# Altium footprint library Connector_Wago.PcbLib: 34 footprints (part 1 of 3)
Each footprint in its own frame and in the unit in brackets; x right, y up, seen from the top. Pads: shape width x height; smd on the part's side, far side on the other; paste and mask are expansions set on the pad; w line width, h text height; cw(c..) or ccw(c..) is an arc to the next point about the centre after c.
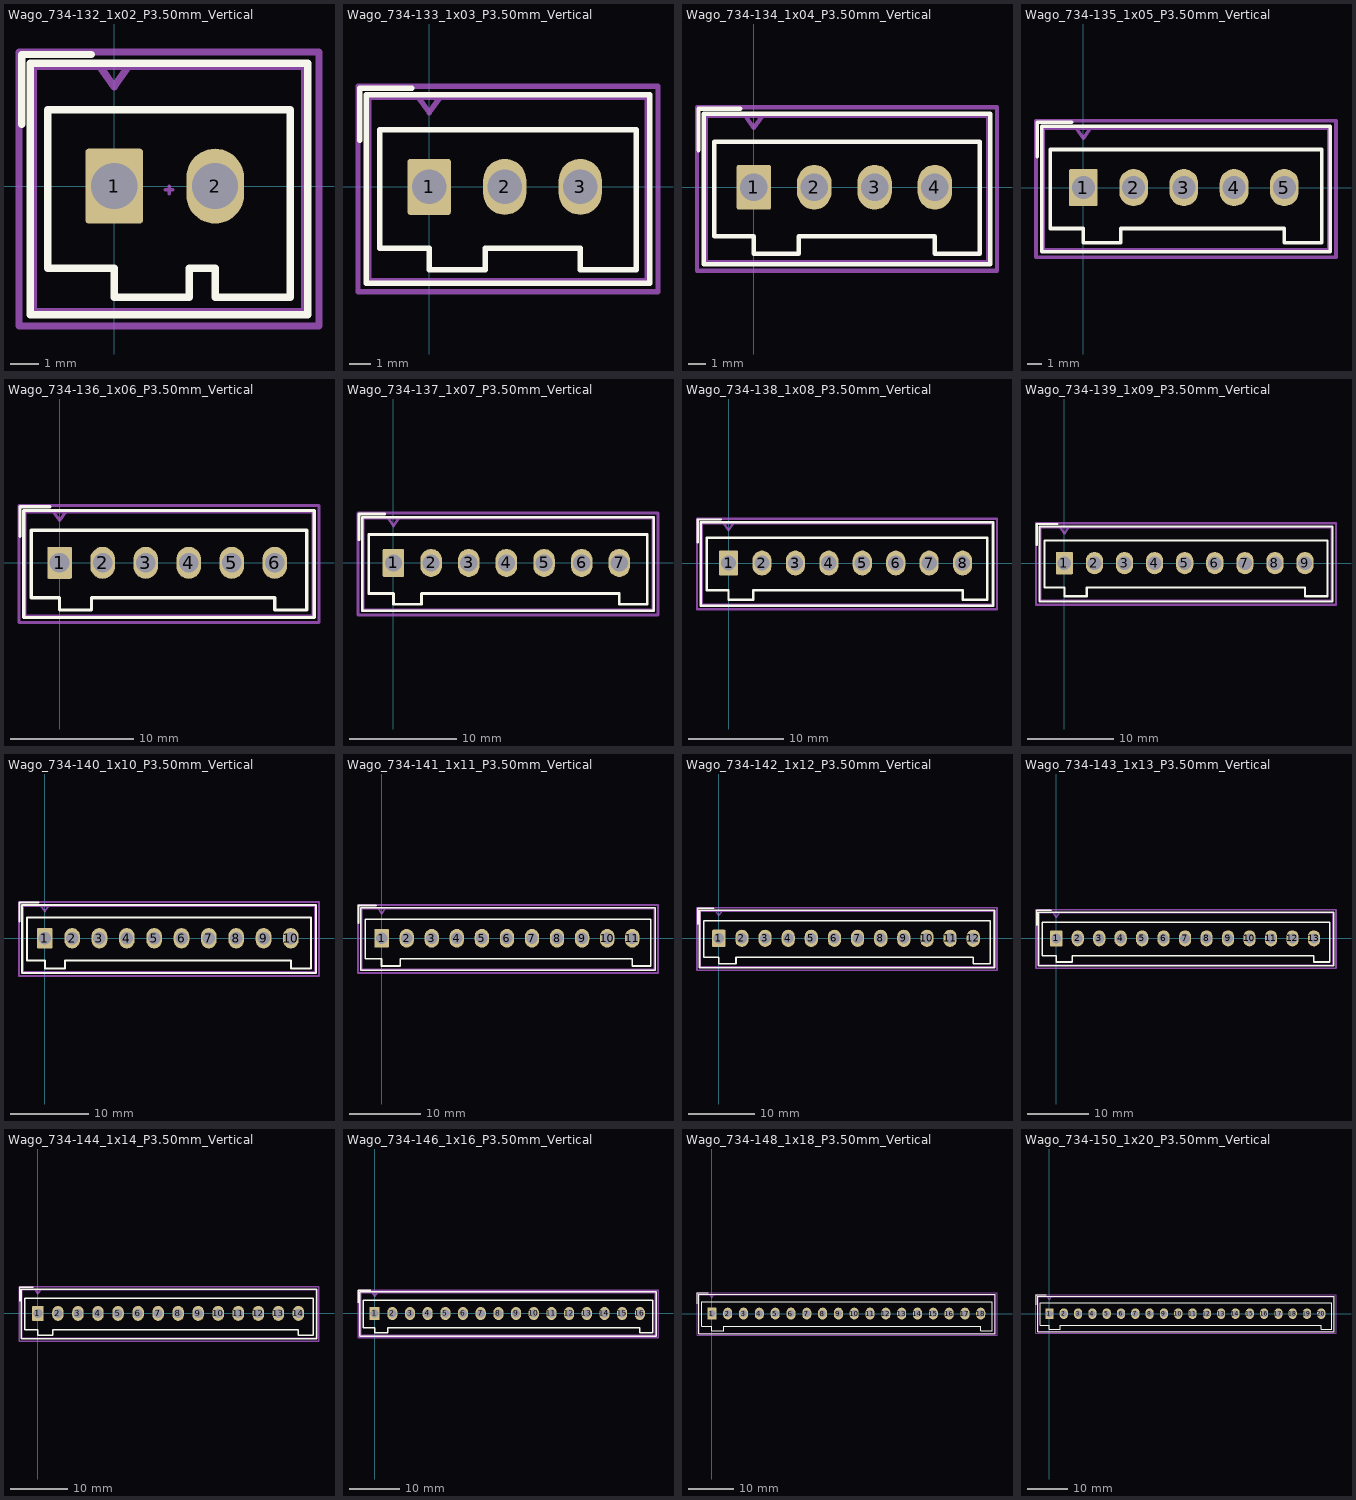
[diagram p0: the footprints below, top view; thin cyan lines are the x and y axes]

## Wago_734-132_1x02_P3.50mm_Vertical [mm]
pads (2):
  rrect12% 2x2.6 hole 1.6: 1(0,0)
  rrect100% 2x2.6 hole 1.6: 2(3.5,0)
F.SilkS:
  lines w0.254: -3.21,2.15 -3.21,4.56 -0.8,4.56 ; -2.91,-4.46 6.71,-4.46 6.71,4.26 -2.91,4.26 -2.91,-4.46 ; -2.3,-2.85 0,-2.85 0,-3.85 2.6,-3.85 2.6,-2.85 3.5,-2.85 3.5,-3.85 6.1,-3.85 6.1,2.65 -2.3,2.65 -2.3,-2.85
Top Component Center:
  lines w0.127: 1.778,-0.127 2.032,-0.127 ; 1.905,-0.254 1.905,0
Top Assembly:
  lines w0.254: -0.5,4.15 0,3.443 0.5,4.15 ; -2.8,-4.35 6.6,-4.35 6.6,4.15 -2.8,4.15 -2.8,-4.35
  text "'.Designator'" at -2.147,-4.49 h1
Top Courtyard:
  lines w0.254: -3.3,-4.85 7.1,-4.85 7.1,4.65 -3.3,4.65 -3.3,-4.85
Top Designator:
  text ".Designator" at -5.718,-0.608 h1.52

## Wago_734-133_1x03_P3.50mm_Vertical [mm]
pads (3):
  rrect12% 2x2.6 hole 1.6: 1(0,0)
  rrect100% 2x2.6 hole 1.6: 2(3.5,0) 3(7,0)
F.SilkS:
  lines w0.254: -3.21,2.15 -3.21,4.56 -0.8,4.56 ; -2.91,-4.46 10.21,-4.46 10.21,4.26 -2.91,4.26 -2.91,-4.46 ; -2.3,-2.85 0,-2.85 0,-3.85 2.6,-3.85 2.6,-2.85 7,-2.85 7,-3.85 9.6,-3.85 9.6,2.65 -2.3,2.65 -2.3,-2.85
Top Assembly:
  lines w0.254: -0.5,4.15 0,3.443 0.5,4.15 ; -2.8,-4.35 10.1,-4.35 10.1,4.15 -2.8,4.15 -2.8,-4.35
  text "'.Designator'" at -0.397,-4.49 h1
Top Courtyard:
  lines w0.254: -3.3,-4.85 10.6,-4.85 10.6,4.65 -3.3,4.65 -3.3,-4.85
Top Designator:
  text ".Designator" at -3.968,-0.608 h1.52

## Wago_734-134_1x04_P3.50mm_Vertical [mm]
pads (4):
  rrect12% 2x2.6 hole 1.6: 1(0,0)
  rrect100% 2x2.6 hole 1.6: 2(3.5,0) 3(7,0) 4(10.5,0)
F.SilkS:
  lines w0.254: -3.21,2.15 -3.21,4.56 -0.8,4.56 ; -2.91,-4.46 13.71,-4.46 13.71,4.26 -2.91,4.26 -2.91,-4.46 ; -2.3,-2.85 0,-2.85 0,-3.85 2.6,-3.85 2.6,-2.85 10.5,-2.85 10.5,-3.85 13.1,-3.85 13.1,2.65 -2.3,2.65 -2.3,-2.85
Top Assembly:
  lines w0.254: -0.5,4.15 0,3.443 0.5,4.15 ; -2.8,-4.35 13.6,-4.35 13.6,4.15 -2.8,4.15 -2.8,-4.35
  text "'.Designator'" at 1.353,-4.49 h1
Top Courtyard:
  lines w0.254: -3.3,-4.85 14.1,-4.85 14.1,4.65 -3.3,4.65 -3.3,-4.85
Top Designator:
  text ".Designator" at -2.218,-0.608 h1.52

## Wago_734-135_1x05_P3.50mm_Vertical [mm]
pads (5):
  rrect12% 2x2.6 hole 1.6: 1(0,0)
  rrect100% 2x2.6 hole 1.6: 2(3.5,0) 3(7,0) 4(10.5,0) 5(14,0)
F.SilkS:
  lines w0.254: -3.21,2.15 -3.21,4.56 -0.8,4.56 ; -2.91,-4.46 17.21,-4.46 17.21,4.26 -2.91,4.26 -2.91,-4.46 ; -2.3,-2.85 0,-2.85 0,-3.85 2.6,-3.85 2.6,-2.85 14,-2.85 14,-3.85 16.6,-3.85 16.6,2.65 -2.3,2.65 -2.3,-2.85
Top Assembly:
  lines w0.254: -0.5,4.15 0,3.443 0.5,4.15 ; -2.8,-4.35 17.1,-4.35 17.1,4.15 -2.8,4.15 -2.8,-4.35
  text "'.Designator'" at 3.103,-4.49 h1
Top Courtyard:
  lines w0.254: -3.3,-4.85 17.6,-4.85 17.6,4.65 -3.3,4.65 -3.3,-4.85
Top Designator:
  text ".Designator" at -0.468,-0.608 h1.52

## Wago_734-136_1x06_P3.50mm_Vertical [mm]
pads (6):
  rrect12% 2x2.6 hole 1.6: 1(0,0)
  rrect100% 2x2.6 hole 1.6: 2(3.5,0) 3(7,0) 4(10.5,0) 5(14,0) 6(17.5,0)
F.SilkS:
  lines w0.254: -3.21,2.15 -3.21,4.56 -0.8,4.56 ; -2.91,-4.46 20.71,-4.46 20.71,4.26 -2.91,4.26 -2.91,-4.46 ; -2.3,-2.85 0,-2.85 0,-3.85 2.6,-3.85 2.6,-2.85 17.5,-2.85 17.5,-3.85 20.1,-3.85 20.1,2.65 -2.3,2.65 -2.3,-2.85
Top Assembly:
  lines w0.254: -0.5,4.15 0,3.443 0.5,4.15 ; -2.8,-4.35 20.6,-4.35 20.6,4.15 -2.8,4.15 -2.8,-4.35
  text "'.Designator'" at 4.853,-4.49 h1
Top Courtyard:
  lines w0.254: -3.3,-4.85 21.1,-4.85 21.1,4.65 -3.3,4.65 -3.3,-4.85
Top Designator:
  text ".Designator" at 1.282,-0.608 h1.52

## Wago_734-137_1x07_P3.50mm_Vertical [mm]
pads (7):
  rrect12% 2x2.6 hole 1.6: 1(0,0)
  rrect100% 2x2.6 hole 1.6: 2(3.5,0) 3(7,0) 4(10.5,0) 5(14,0) 6(17.5,0) 7(21,0)
F.SilkS:
  lines w0.254: -3.21,2.15 -3.21,4.56 -0.8,4.56 ; -2.91,-4.46 24.21,-4.46 24.21,4.26 -2.91,4.26 -2.91,-4.46 ; -2.3,-2.85 0,-2.85 0,-3.85 2.6,-3.85 2.6,-2.85 21,-2.85 21,-3.85 23.6,-3.85 23.6,2.65 -2.3,2.65 -2.3,-2.85
Top Assembly:
  lines w0.254: -0.5,4.15 0,3.443 0.5,4.15 ; -2.8,-4.35 24.1,-4.35 24.1,4.15 -2.8,4.15 -2.8,-4.35
  text "'.Designator'" at 6.603,-4.49 h1
Top Courtyard:
  lines w0.254: -3.3,-4.85 24.6,-4.85 24.6,4.65 -3.3,4.65 -3.3,-4.85
Top Designator:
  text ".Designator" at 3.032,-0.608 h1.52

## Wago_734-138_1x08_P3.50mm_Vertical [mm]
pads (8):
  rrect12% 2x2.6 hole 1.6: 1(0,0)
  rrect100% 2x2.6 hole 1.6: 2(3.5,0) 3(7,0) 4(10.5,0) 5(14,0) 6(17.5,0) 7(21,0) 8(24.5,0)
F.SilkS:
  lines w0.254: -3.21,2.15 -3.21,4.56 -0.8,4.56 ; -2.91,-4.46 27.71,-4.46 27.71,4.26 -2.91,4.26 -2.91,-4.46 ; -2.3,-2.85 0,-2.85 0,-3.85 2.6,-3.85 2.6,-2.85 24.5,-2.85 24.5,-3.85 27.1,-3.85 27.1,2.65 -2.3,2.65 -2.3,-2.85
Top Assembly:
  lines w0.254: -0.5,4.15 0,3.443 0.5,4.15 ; -2.8,-4.35 27.6,-4.35 27.6,4.15 -2.8,4.15 -2.8,-4.35
  text "'.Designator'" at 8.353,-4.49 h1
Top Courtyard:
  lines w0.254: -3.3,-4.85 28.1,-4.85 28.1,4.65 -3.3,4.65 -3.3,-4.85
Top Designator:
  text ".Designator" at 4.782,-0.608 h1.52

## Wago_734-139_1x09_P3.50mm_Vertical [mm]
pads (9):
  rrect12% 2x2.6 hole 1.6: 1(0,0)
  rrect100% 2x2.6 hole 1.6: 2(3.5,0) 3(7,0) 4(10.5,0) 5(14,0) 6(17.5,0) 7(21,0) 8(24.5,0) 9(28,0)
F.SilkS:
  lines w0.254: -3.21,2.15 -3.21,4.56 -0.8,4.56 ; -2.91,-4.46 31.21,-4.46 31.21,4.26 -2.91,4.26 -2.91,-4.46 ; -2.3,-2.85 0,-2.85 0,-3.85 2.6,-3.85 2.6,-2.85 28,-2.85 28,-3.85 30.6,-3.85 30.6,2.65 -2.3,2.65 -2.3,-2.85
Top Assembly:
  lines w0.254: -0.5,4.15 0,3.443 0.5,4.15 ; -2.8,-4.35 31.1,-4.35 31.1,4.15 -2.8,4.15 -2.8,-4.35
  text "'.Designator'" at 10.103,-4.49 h1
Top Courtyard:
  lines w0.254: -3.3,-4.85 31.6,-4.85 31.6,4.65 -3.3,4.65 -3.3,-4.85
Top Designator:
  text ".Designator" at 6.532,-0.608 h1.52

## Wago_734-140_1x10_P3.50mm_Vertical [mm]
pads (10):
  rrect12% 2x2.6 hole 1.6: 1(0,0)
  rrect100% 2x2.6 hole 1.6: 2(3.5,0) 3(7,0) 4(10.5,0) 5(14,0) 6(17.5,0) 7(21,0) 8(24.5,0) 9(28,0) 10(31.5,0)
F.SilkS:
  lines w0.254: -3.21,2.15 -3.21,4.56 -0.8,4.56 ; -2.91,-4.46 34.71,-4.46 34.71,4.26 -2.91,4.26 -2.91,-4.46 ; -2.3,-2.85 0,-2.85 0,-3.85 2.6,-3.85 2.6,-2.85 31.5,-2.85 31.5,-3.85 34.1,-3.85 34.1,2.65 -2.3,2.65 -2.3,-2.85
Top Assembly:
  lines w0.254: -0.5,4.15 0,3.443 0.5,4.15 ; -2.8,-4.35 34.6,-4.35 34.6,4.15 -2.8,4.15 -2.8,-4.35
  text "'.Designator'" at 11.853,-4.49 h1
Top Courtyard:
  lines w0.254: -3.3,-4.85 35.1,-4.85 35.1,4.65 -3.3,4.65 -3.3,-4.85
Top Designator:
  text ".Designator" at 8.282,-0.608 h1.52

## Wago_734-141_1x11_P3.50mm_Vertical [mm]
pads (11):
  rrect12% 2x2.6 hole 1.6: 1(0,0)
  rrect100% 2x2.6 hole 1.6: 2(3.5,0) 3(7,0) 4(10.5,0) 5(14,0) 6(17.5,0) 7(21,0) 8(24.5,0) 9(28,0) 10(31.5,0) 11(35,0)
F.SilkS:
  lines w0.254: -3.21,2.15 -3.21,4.56 -0.8,4.56 ; -2.91,-4.46 38.21,-4.46 38.21,4.26 -2.91,4.26 -2.91,-4.46 ; -2.3,-2.85 0,-2.85 0,-3.85 2.6,-3.85 2.6,-2.85 35,-2.85 35,-3.85 37.6,-3.85 37.6,2.65 -2.3,2.65 -2.3,-2.85
Top Assembly:
  lines w0.254: -0.5,4.15 0,3.443 0.5,4.15 ; -2.8,-4.35 38.1,-4.35 38.1,4.15 -2.8,4.15 -2.8,-4.35
  text "'.Designator'" at 13.603,-4.49 h1
Top Courtyard:
  lines w0.254: -3.3,-4.85 38.6,-4.85 38.6,4.65 -3.3,4.65 -3.3,-4.85
Top Designator:
  text ".Designator" at 10.032,-0.608 h1.52

## Wago_734-142_1x12_P3.50mm_Vertical [mm]
pads (12):
  rrect12% 2x2.6 hole 1.6: 1(0,0)
  rrect100% 2x2.6 hole 1.6: 2(3.5,0) 3(7,0) 4(10.5,0) 5(14,0) 6(17.5,0) 7(21,0) 8(24.5,0) 9(28,0) 10(31.5,0) 11(35,0) 12(38.5,0)
F.SilkS:
  lines w0.254: -3.21,2.15 -3.21,4.56 -0.8,4.56 ; -2.91,-4.46 41.71,-4.46 41.71,4.26 -2.91,4.26 -2.91,-4.46 ; -2.3,-2.85 0,-2.85 0,-3.85 2.6,-3.85 2.6,-2.85 38.5,-2.85 38.5,-3.85 41.1,-3.85 41.1,2.65 -2.3,2.65 -2.3,-2.85
Top Assembly:
  lines w0.254: -0.5,4.15 0,3.443 0.5,4.15 ; -2.8,-4.35 41.6,-4.35 41.6,4.15 -2.8,4.15 -2.8,-4.35
  text "'.Designator'" at 15.353,-4.49 h1
Top Courtyard:
  lines w0.254: -3.3,-4.85 42.1,-4.85 42.1,4.65 -3.3,4.65 -3.3,-4.85
Top Designator:
  text ".Designator" at 11.782,-0.608 h1.52

## Wago_734-143_1x13_P3.50mm_Vertical [mm]
pads (13):
  rrect12% 2x2.6 hole 1.6: 1(0,0)
  rrect100% 2x2.6 hole 1.6: 2(3.5,0) 3(7,0) 4(10.5,0) 5(14,0) 6(17.5,0) 7(21,0) 8(24.5,0) 9(28,0) 10(31.5,0) 11(35,0) 12(38.5,0) 13(42,0)
F.SilkS:
  lines w0.254: -3.21,2.15 -3.21,4.56 -0.8,4.56 ; -2.91,-4.46 45.21,-4.46 45.21,4.26 -2.91,4.26 -2.91,-4.46 ; -2.3,-2.85 0,-2.85 0,-3.85 2.6,-3.85 2.6,-2.85 42,-2.85 42,-3.85 44.6,-3.85 44.6,2.65 -2.3,2.65 -2.3,-2.85
Top Assembly:
  lines w0.254: -0.5,4.15 0,3.443 0.5,4.15 ; -2.8,-4.35 45.1,-4.35 45.1,4.15 -2.8,4.15 -2.8,-4.35
  text "'.Designator'" at 17.103,-4.49 h1
Top Courtyard:
  lines w0.254: -3.3,-4.85 45.6,-4.85 45.6,4.65 -3.3,4.65 -3.3,-4.85
Top Designator:
  text ".Designator" at 13.532,-0.608 h1.52

## Wago_734-144_1x14_P3.50mm_Vertical [mm]
pads (14):
  rrect12% 2x2.6 hole 1.6: 1(0,0)
  rrect100% 2x2.6 hole 1.6: 2(3.5,0) 3(7,0) 4(10.5,0) 5(14,0) 6(17.5,0) 7(21,0) 8(24.5,0) 9(28,0) 10(31.5,0) 11(35,0) 12(38.5,0) 13(42,0) 14(45.5,0)
F.SilkS:
  lines w0.254: -3.21,2.15 -3.21,4.56 -0.8,4.56 ; -2.91,-4.46 48.71,-4.46 48.71,4.26 -2.91,4.26 -2.91,-4.46 ; -2.3,-2.85 0,-2.85 0,-3.85 2.6,-3.85 2.6,-2.85 45.5,-2.85 45.5,-3.85 48.1,-3.85 48.1,2.65 -2.3,2.65 -2.3,-2.85
Top Assembly:
  lines w0.254: -0.5,4.15 0,3.443 0.5,4.15 ; -2.8,-4.35 48.6,-4.35 48.6,4.15 -2.8,4.15 -2.8,-4.35
  text "'.Designator'" at 18.853,-4.49 h1
Top Courtyard:
  lines w0.254: -3.3,-4.85 49.1,-4.85 49.1,4.65 -3.3,4.65 -3.3,-4.85
Top Designator:
  text ".Designator" at 15.282,-0.608 h1.52

## Wago_734-146_1x16_P3.50mm_Vertical [mm]
pads (16):
  rrect12% 2x2.6 hole 1.6: 1(0,0)
  rrect100% 2x2.6 hole 1.6: 2(3.5,0) 3(7,0) 4(10.5,0) 5(14,0) 6(17.5,0) 7(21,0) 8(24.5,0) 9(28,0) 10(31.5,0) 11(35,0) 12(38.5,0) 13(42,0) 14(45.5,0) 15(49,0) 16(52.5,0)
F.SilkS:
  lines w0.254: -3.21,2.15 -3.21,4.56 -0.8,4.56 ; -2.91,-4.46 55.71,-4.46 55.71,4.26 -2.91,4.26 -2.91,-4.46 ; -2.3,-2.85 0,-2.85 0,-3.85 2.6,-3.85 2.6,-2.85 52.5,-2.85 52.5,-3.85 55.1,-3.85 55.1,2.65 -2.3,2.65 -2.3,-2.85
Top Assembly:
  lines w0.254: -0.5,4.15 0,3.443 0.5,4.15 ; -2.8,-4.35 55.6,-4.35 55.6,4.15 -2.8,4.15 -2.8,-4.35
  text "'.Designator'" at 22.353,-4.49 h1
Top Courtyard:
  lines w0.254: -3.3,-4.85 56.1,-4.85 56.1,4.65 -3.3,4.65 -3.3,-4.85
Top Designator:
  text ".Designator" at 18.782,-0.608 h1.52

## Wago_734-148_1x18_P3.50mm_Vertical [mm]
pads (18):
  rrect12% 2x2.6 hole 1.6: 1(0,0)
  rrect100% 2x2.6 hole 1.6: 2(3.5,0) 3(7,0) 4(10.5,0) 5(14,0) 6(17.5,0) 7(21,0) 8(24.5,0) 9(28,0) 10(31.5,0) 11(35,0) 12(38.5,0) 13(42,0) 14(45.5,0) 15(49,0) 16(52.5,0) 17(56,0) 18(59.5,0)
F.SilkS:
  lines w0.254: -3.21,2.15 -3.21,4.56 -0.8,4.56 ; -2.91,-4.46 62.71,-4.46 62.71,4.26 -2.91,4.26 -2.91,-4.46 ; -2.3,-2.85 0,-2.85 0,-3.85 2.6,-3.85 2.6,-2.85 59.5,-2.85 59.5,-3.85 62.1,-3.85 62.1,2.65 -2.3,2.65 -2.3,-2.85
Top Assembly:
  lines w0.254: -0.5,4.15 0,3.443 0.5,4.15 ; -2.8,-4.35 62.6,-4.35 62.6,4.15 -2.8,4.15 -2.8,-4.35
  text "'.Designator'" at 25.853,-4.49 h1
Top Courtyard:
  lines w0.254: -3.3,-4.85 63.1,-4.85 63.1,4.65 -3.3,4.65 -3.3,-4.85
Top Designator:
  text ".Designator" at 22.282,-0.608 h1.52

## Wago_734-150_1x20_P3.50mm_Vertical [mm]
pads (20):
  rrect12% 2x2.6 hole 1.6: 1(0,0)
  rrect100% 2x2.6 hole 1.6: 2(3.5,0) 3(7,0) 4(10.5,0) 5(14,0) 6(17.5,0) 7(21,0) 8(24.5,0) 9(28,0) 10(31.5,0) 11(35,0) 12(38.5,0) 13(42,0) 14(45.5,0) 15(49,0) 16(52.5,0) 17(56,0) 18(59.5,0) 19(63,0) 20(66.5,0)
F.SilkS:
  lines w0.254: -3.21,2.15 -3.21,4.56 -0.8,4.56 ; -2.91,-4.46 69.71,-4.46 69.71,4.26 -2.91,4.26 -2.91,-4.46 ; -2.3,-2.85 0,-2.85 0,-3.85 2.6,-3.85 2.6,-2.85 66.5,-2.85 66.5,-3.85 69.1,-3.85 69.1,2.65 -2.3,2.65 -2.3,-2.85
Top Assembly:
  lines w0.254: -0.5,4.15 0,3.443 0.5,4.15 ; -2.8,-4.35 69.6,-4.35 69.6,4.15 -2.8,4.15 -2.8,-4.35
  text "'.Designator'" at 29.353,-4.49 h1
Top Courtyard:
  lines w0.254: -3.3,-4.85 70.1,-4.85 70.1,4.65 -3.3,4.65 -3.3,-4.85
Top Designator:
  text ".Designator" at 25.782,-0.608 h1.52